# Altium footprint library MC32829.PcbLib: 1 footprints
Each footprint in its own frame and in the unit in brackets; x right, y up, seen from the top. Pads: shape width x height; smd on the part's side, far side on the other; paste and mask are expansions set on the pad; w line width, h text height; cw(c..) or ccw(c..) is an arc to the next point about the centre after c.
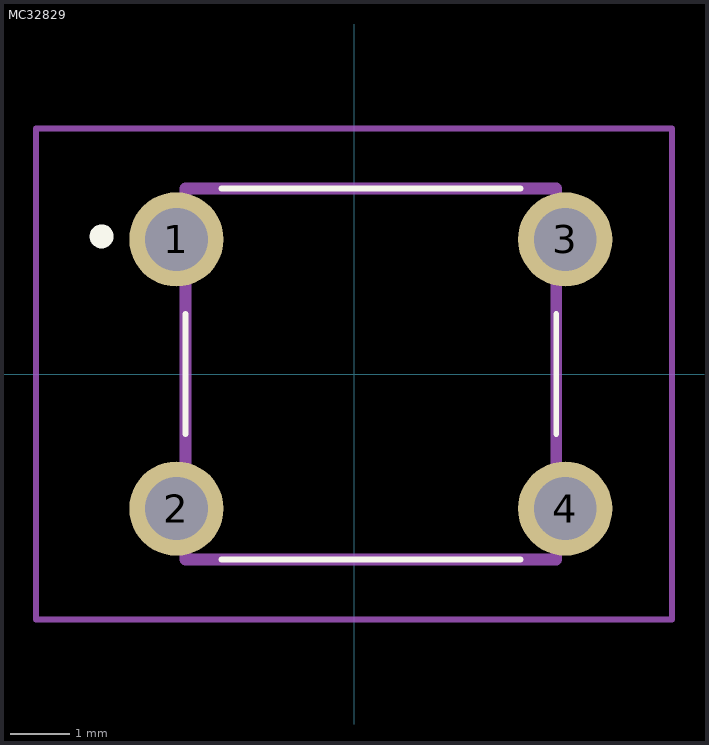
[diagram p0: the footprint, top view; thin cyan lines are the x and y axes]

## MC32829 [mm]
pads (4):
  round 1.575 hole 1.05: 1(-2.969,2.25) 2(-2.969,-2.25) 3(3.531,2.25) 4(3.531,-2.25)
Top Overlay:
  lines w0.1: -2.819,-1 -2.819,1 ; -2.219,-3.1 2.781,-3.1 ; -2.219,3.1 2.781,3.1 ; 3.381,-1 3.381,1
  lines w0.2: -4.219,2.2 ccw(c-4.219,2.3) -4.219,2.4 ; -4.219,2.2 -4.219,2.2 ; -4.219,2.2 cw(c-4.219,2.3) -4.219,2.4 ; -4.219,2.4 -4.219,2.4
Mechanical 15:
  lines w0.2: -2.819,-3.1 3.381,-3.1 3.381,3.1 -2.819,3.1 -2.819,-3.1
Mechanical 20:
  lines w0.1: -5.319,-4.1 5.319,-4.1 5.319,4.1 -5.319,4.1 -5.319,-4.1